# Altium footprint library Footprints.PcbLib: 67 footprints (part 3 of 5)
Each footprint in its own frame and in the unit in brackets; x right, y up, seen from the top. Pads: shape width x height; smd on the part's side, far side on the other; paste and mask are expansions set on the pad; w line width, h text height; cw(c..) or ccw(c..) is an arc to the next point about the centre after c.
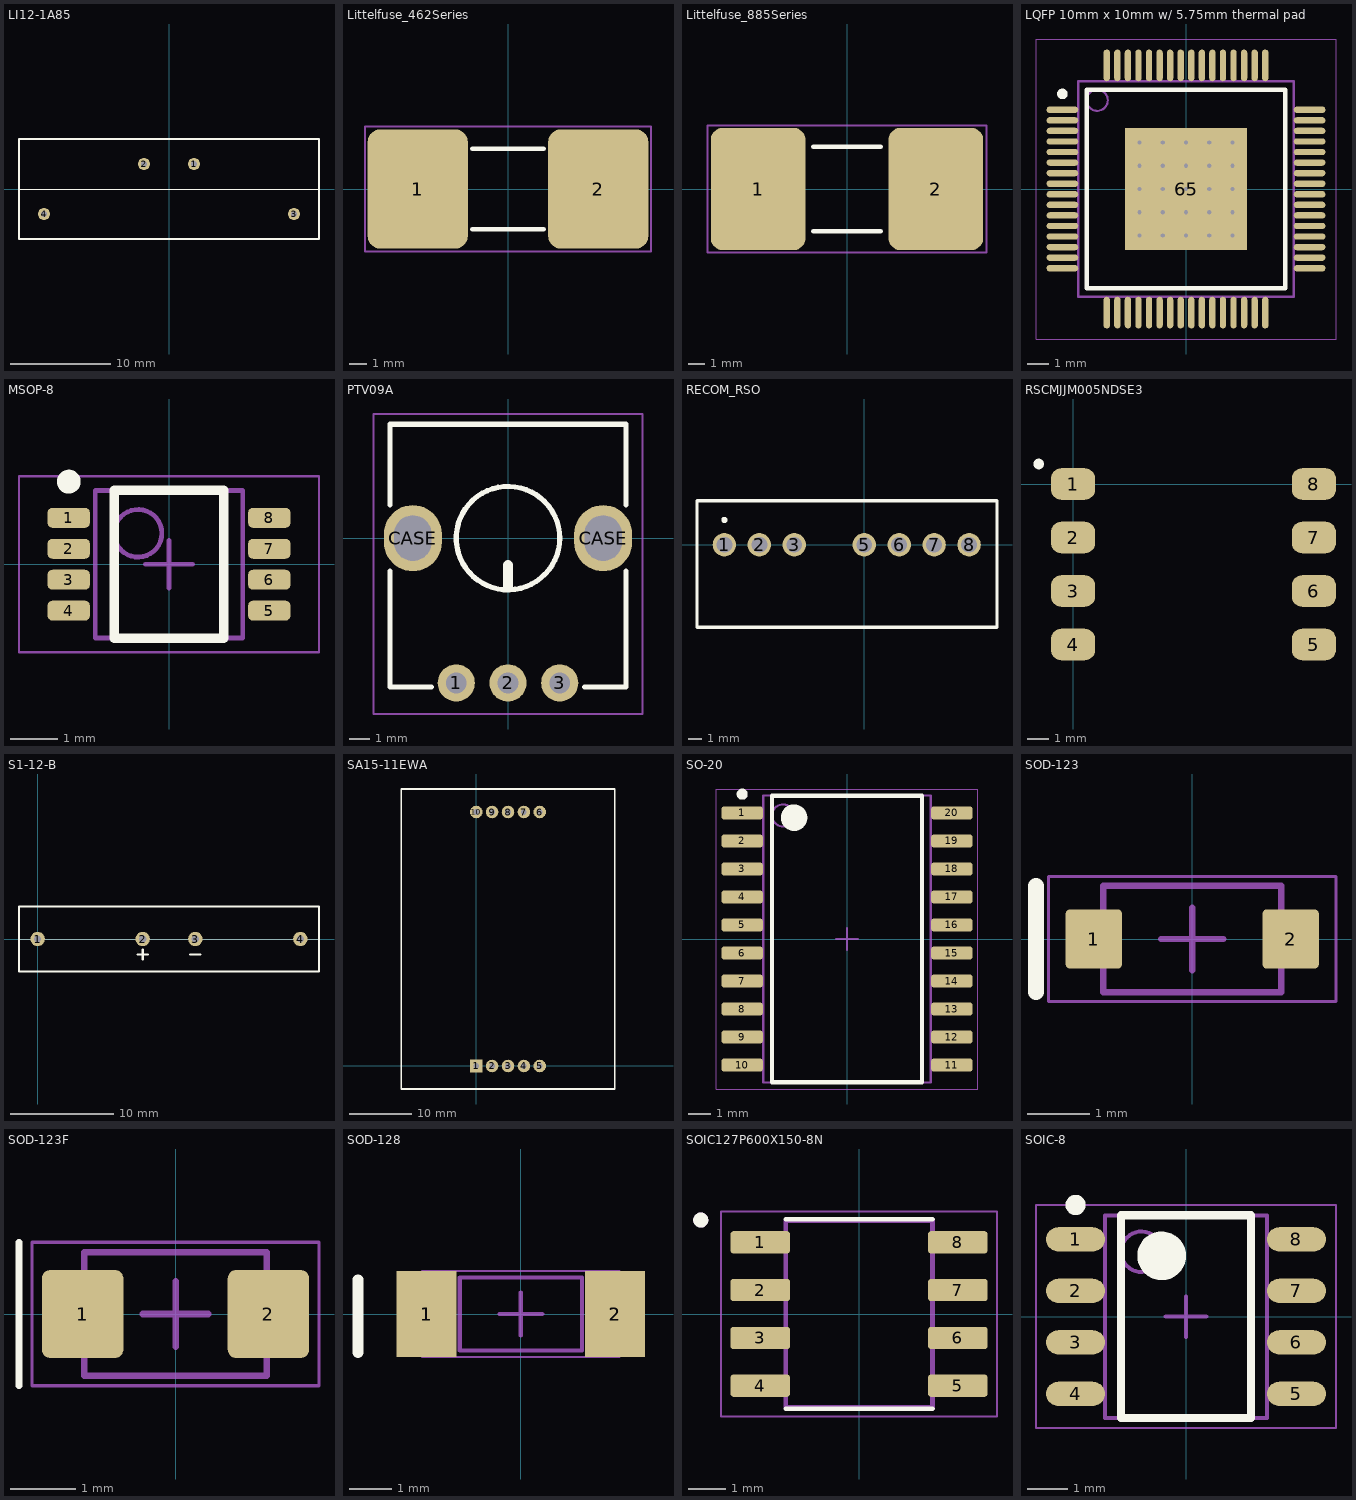
[diagram p2: the footprints below, top view; thin cyan lines are the x and y axes]

## LI12-1A85 [mm]
pads (4):
  round 1.2 hole 0.6: 1(2.5,2.5) 2(-2.5,2.5) 3(12.5,-2.5) 4(-12.5,-2.5)
Top Overlay:
  lines w0.1: -15,0 15,0
  lines w0.2: -15,-5 -15,5 15,5 15,-5 -15,-5
3D body: height 10, standoff 0.4, extent -15,-5 15,5
3D body: height 0, standoff 0, extent -12.5,-2.5 -12.5,-2.5
3D body: height 0, standoff 0, extent -2.5,2.5 -2.5,2.5
3D body: height 0, standoff 0, extent 2.5,2.5 2.5,2.5
3D body: height 0, standoff 0, extent 12.5,-2.5 12.5,-2.5

## Littelfuse_462Series [mm]
pads (2):
  rrect25% 5.6x6.68 smd: 1(-5.05,0) 2(5.05,0)
Top Overlay:
  lines w0.254: -2,-2.25 2,-2.25 ; -2,2.25 2,2.25
Mechanical 15:
  lines w0.1: -8,-3.5 -8,3.5 8,3.5 8,-3.5 -8,-3.5
3D body "series462.STEP": height 4.5, standoff 0, extent -5.25,-2.25 5.25,2.25

## Littelfuse_885Series [mm]
pads (2):
  rrect25% 5.6x7.23 smd: 1(-5.25,0) 2(5.25,0)
Top Overlay:
  lines w0.254: -2,-2.5 2,-2.5 ; -2,2.5 2,2.5
Mechanical 15:
  lines w0.1: -8.25,-3.75 -8.25,3.75 8.25,3.75 8.25,-3.75 -8.25,-3.75
3D body "series885.STEP": height 4.78, standoff 0, extent -5.43,-2.39 5.43,2.39

## LQFP 10mm x 10mm w/ 5.75mm thermal pad [mm]
height 1.6
pads (65):
  oval 1.5x0.3 smd paste-0.06: 1(-5.85,3.75) 2(-5.85,3.25) 3(-5.85,2.75) 4(-5.85,2.25) 5(-5.85,1.75) 6(-5.85,1.25) 7(-5.85,0.75) 8(-5.85,0.25) 9(-5.85,-0.25) 10(-5.85,-0.75) 11(-5.85,-1.25) 12(-5.85,-1.75) 13(-5.85,-2.25) 14(-5.85,-2.75) 15(-5.85,-3.25) 16(-5.85,-3.75) 33(5.85,-3.75) 34(5.85,-3.25) 35(5.85,-2.75) 36(5.85,-2.25) 37(5.85,-1.75) 38(5.85,-1.25) 39(5.85,-0.75) 40(5.85,-0.25) 41(5.85,0.25) 42(5.85,0.75) 43(5.85,1.25) 44(5.85,1.75) 45(5.85,2.25) 46(5.85,2.75) 47(5.85,3.25) 48(5.85,3.75)
  oval 0.3x1.5 smd paste-0.06: 17(-3.75,-5.85) 18(-3.25,-5.85) 19(-2.75,-5.85) 20(-2.25,-5.85) 21(-1.75,-5.85) 22(-1.25,-5.85) 23(-0.75,-5.85) 24(-0.25,-5.85) 25(0.25,-5.85) 26(0.75,-5.85) 27(1.25,-5.85) 28(1.75,-5.85) 29(2.25,-5.85) 30(2.75,-5.85) 31(3.25,-5.85) 32(3.75,-5.85) 49(3.75,5.85) 50(3.25,5.85) 51(2.75,5.85) 52(2.25,5.85) 53(1.75,5.85) 54(1.25,5.85) 55(0.75,5.85) 56(0.25,5.85) 57(-0.25,5.85) 58(-0.75,5.85) 59(-1.25,5.85) 60(-1.75,5.85) 61(-2.25,5.85) 62(-2.75,5.85) 63(-3.25,5.85) 64(-3.75,5.85)
  rect 5.79x5.79 smd: 65(0,0)
via -2.2,2.2 diameter 0.5 hole 0.2
via -1.1,2.2 diameter 0.5 hole 0.2
via 0,2.2 diameter 0.5 hole 0.2
via 1.1,2.2 diameter 0.5 hole 0.2
via 2.2,2.2 diameter 0.5 hole 0.2
via -2.2,1.1 diameter 0.5 hole 0.2
via -1.1,1.1 diameter 0.5 hole 0.2
via 0,1.1 diameter 0.5 hole 0.2
via 1.1,1.1 diameter 0.5 hole 0.2
via 2.2,1.1 diameter 0.5 hole 0.2
via -2.2,0 diameter 0.5 hole 0.2
via -1.1,0 diameter 0.5 hole 0.2
via 0,0 diameter 0.5 hole 0.2
via 1.1,0 diameter 0.5 hole 0.2
via 2.2,0 diameter 0.5 hole 0.2
via -2.2,-1.1 diameter 0.5 hole 0.2
via -1.1,-1.1 diameter 0.5 hole 0.2
via 0,-1.1 diameter 0.5 hole 0.2
via 1.1,-1.1 diameter 0.5 hole 0.2
via 2.2,-1.1 diameter 0.5 hole 0.2
via -2.2,-2.2 diameter 0.5 hole 0.2
via -1.1,-2.2 diameter 0.5 hole 0.2
via 0,-2.2 diameter 0.5 hole 0.2
via 1.1,-2.2 diameter 0.5 hole 0.2
via 2.2,-2.2 diameter 0.5 hole 0.2
Top Overlay:
  circle w0.25: c-5.85,4.5 r0.125
  lines w0.2: -4.7,-4.7 -4.7,4.7 4.7,4.7 4.7,-4.7 -4.7,-4.7
Mechanical 13:
  circle w0.1: c-4.2,4.2 r0.5
  lines w0.1: -5.1,-5.1 -5.1,5.1 5.1,5.1 5.1,-5.1 -5.1,-5.1
Mechanical 15:
  lines w0.05: -7.1,-7.1 -7.1,7.1 7.1,7.1 7.1,-7.1 -7.1,-7.1
  lines w0.1: -0.5,0 0.5,0 ; 0,-0.5 0,0.5
3D body "QFP127P600-8N.step": height 1.6, standoff 0, extent -6,-6 6,6

## MSOP-8 [mm] "MSOP, 8-Leads, Body 3.00x3.00mmPitch 0.65mm, IPC MSOP65P490X110-8N, Medium Density, LTC2053, AD8495, LT6100HMS8PBF"
height 1.1
pads (8):
  rrect50% 0.889x0.42 smd: 1(-2.105,0.975) 2(-2.105,0.325) 3(-2.105,-0.325) 4(-2.105,-0.975) 5(2.105,-0.975) 6(2.105,-0.325) 7(2.105,0.325) 8(2.105,0.975)
Top Overlay:
  circle w0.25: c-2.105,1.735 r0.125
  lines w0.2: -1.15,-1.55 1.15,-1.55 1.15,1.55 -1.15,1.55 -1.15,-1.55
Mechanical 13:
  circle w0.1: c-0.65,0.65 r0.5
  lines w0.1: -1.55,-1.55 1.55,-1.55 1.55,1.55 -1.55,1.55 -1.55,-1.55
Mechanical 15:
  lines w0.05: -3.15,-1.85 3.15,-1.85 3.15,1.85 -3.15,1.85 -3.15,-1.85
  lines w0.1: -0.5,0 0.5,0 ; 0,-0.5 0,0.5
3D body: height 1.1, standoff 0.05, extent -1.55,-1.55 1.55,1.55

## PTV09A [mm] "HORIZONTAL/REAR MOUNT ROTARY POT"
pads (5):
  round 1.8 hole 1: 1(-2.5,-7) 2(0,-7) 3(2.5,-7)
  oval 2.8x3.2 hole 1.8 slot 2.2 at 90 deg: CASE(-4.6,0) CASE(4.6,0)
Top Overlay:
  circle w0.254: c0,0 r2.5
  lines w0.254: -5.7,-1.6 -5.7,-7.2 -3.7,-7.2 ; -5.7,1.6 -5.7,5.5 5.7,5.5 5.7,1.6 ; 3.7,-7.2 5.7,-7.2 5.7,-1.6
  lines w0.5: 0,-2.3 0,-1.3
Mechanical 15:
  lines w0.1: -6.5,-8.5 -6.5,6 6.5,6 6.5,0 6.5,-8.5 -6.5,-8.5
3D body "ptv09a-4x20u-xxxx.stp": height 20, standoff -3.99, extent -5.7,-7.15 5.7,5.5

## RECOM_RSO [mm]
pads (7):
  round 1.7 hole 1.15: 1(-10.16,0) 2(-7.62,0) 3(-5.08,0) 5(0,0) 6(2.54,0) 7(5.08,0) 8(7.62,0)
Top Overlay:
  circle w0.254: c-10.16,1.8 r0.1
  lines w0.254: -12.15,-6 -12.15,-6 ; -12.15,-6 9.65,-6 9.65,3.2 -12.15,3.2 -12.15,-6
Mechanical 15:
  lines w0.1: -12.15,-6 -12.15,3.2 9.65,3.2 9.65,-6 -12.15,-6
3D body "RECOM_RSO.STEP": height 11.1, standoff -4.1, extent -12.15,-6 9.65,3.2

## RSCMJJM005NDSE3 [mm]
pads (8):
  rrect65% 2.1x1.5 smd: 1(0,0) 2(0,-2.54) 3(0,-5.08) 4(0,-7.62) 5(11.432,-7.62) 6(11.432,-5.08) 7(11.432,-2.54) 8(11.432,0)
Top Overlay:
  circle w0.25: c-1.635,0.95 r0.125
3D body "PressureSensorModel.STEP": height 8.43, standoff -0.01, extent -0.911,-8.755 12.31,7.65

## S1-12-B [mm]
pads (4):
  round 1.4 hole 0.7: 1(0,0) 2(10.16,0) 3(15.24,0) 4(25.4,0)
Top Overlay:
  lines w0.1: -1.8,0 27.2,0
  lines w0.2: 9.66,-1.5 10.66,-1.5 ; 10.16,-2 10.16,-1 ; 14.74,-1.5 15.74,-1.5 ; -1.8,-3.15 27.2,-3.15 27.2,3.15 -1.8,3.15 -1.8,-3.15
3D body: height 0, standoff 0, extent 25.4,0 25.4,0
3D body: height 0, standoff 0, extent 15.24,0 15.24,0
3D body: height 0, standoff 0, extent 10.16,0 10.16,0
3D body: height 0, standoff 0, extent 0,0 0,0
3D body: height 12.9, standoff 0.4, extent -1.8,-3.2 27.2,3.2

## SA15-11EWA [mm]
pads (10):
  rect 2x2 hole 0.9: 1(0,0)
  round 2 hole 0.9: 2(2.54,0) 3(5.08,0) 4(7.62,0) 5(10.16,0) 6(10.16,40.64) 7(7.62,40.64) 8(5.08,40.64) 9(2.54,40.64) 10(0,40.64)
Top Overlay:
  lines w0.254: -11.995,-3.68 22.155,-3.68 22.155,44.32 -11.995,44.32 -11.995,-3.68
3D body "SA15-11.STEP": height 12.5, standoff -4, extent -11.5,-3.18 21.65,43.82

## SO-20 [mm] "LT1161ISWPBF"
height 2.65
pads (20):
  rrect50% 1.9x0.6 smd: 1(-4.75,5.715) 2(-4.75,4.445) 3(-4.75,3.175) 4(-4.75,1.905) 5(-4.75,0.635) 6(-4.75,-0.635) 7(-4.75,-1.905) 8(-4.75,-3.175) 9(-4.75,-4.445) 10(-4.75,-5.715) 11(4.75,-5.715) 12(4.75,-4.445) 13(4.75,-3.175) 14(4.75,-1.905) 15(4.75,-0.635) 16(4.75,0.635) 17(4.75,1.905) 18(4.75,3.175) 19(4.75,4.445) 20(4.75,5.715)
Top Overlay:
  circle w0.25: c-4.75,6.565 r0.125
  circle w0.6: c-2.4,5.5 r0.3
  lines w0.2: -3.4,-6.5 -3.4,6.5 3.4,6.5 3.4,-6.5 -3.4,-6.5
Mechanical 13:
  circle w0.1: c-2.9,5.6 r0.5
  lines w0.1: -3.8,-6.5 -3.8,6.5 3.8,6.5 3.8,-6.5 -3.8,-6.5
Mechanical 15:
  lines w0.05: -5.925,-6.8 -5.925,6.8 5.925,6.8 5.925,-6.8 -5.925,-6.8
  lines w0.1: -0.5,0 0.5,0 ; 0,-0.5 0,0.5
3D body: height 2.65, standoff 0.1, extent -3.8,-6.5 3.8,6.5

## SOD-123 [mm] "SODFL, 2-Leads, Body 1.55x3.70mm, IPC Medium Density"
height 1.35
pads (2):
  rrect15% 0.9x0.95 smd: 1(-1.575,0) 2(1.575,0)
Top Overlay:
  lines w0.254: -2.5,-0.85 -2.5,0.85
Mechanical 13:
  lines w0.1: -1.425,-0.85 1.425,-0.85 1.425,0.85 -1.425,0.85 -1.425,-0.85
Mechanical 15:
  lines w0.05: -2.3,-1 2.3,-1 2.3,1 -2.3,1 -2.3,-1
  lines w0.1: -0.5,0 0.5,0 ; 0,-0.5 0,0.5
3D body "SODFL370X135-2N.step": height 1.35, standoff 0, extent -1.85,-0.85 1.85,0.85

## SOD-123F [mm] "SODFL, 2-Leads, Body 1.80x3.50mm, IPC Medium Density"
height 1.15
pads (2):
  rrect20% 1.25x1.35 smd: 1(-1.425,0) 2(1.425,0)
Top Overlay:
  lines w0.1: -2.4,-1.1 -2.4,1.1
Mechanical 13:
  lines w0.1: -1.4,-0.95 1.4,-0.95 1.4,0.95 -1.4,0.95 -1.4,-0.95
Mechanical 15:
  lines w0.05: -2.2,-1.1 2.2,-1.1 2.2,1.1 -2.2,1.1 -2.2,-1.1
  lines w0.1: -0.5,0 0.5,0 ; 0,-0.5 0,0.5
3D body "SOD-123F .step": height 1.15, standoff 0, extent -1.75,-0.95 1.75,0.95

## SOD-128 [mm]
pads (4):
  rect 1.4x2 smd: 1(-2.2,0) 1(-2.2,0) 2(2.2,0) 2(2.2,0)
Top Overlay:
  lines w0.254: -3.8,-0.9 -3.8,0.8 -3.8,-0.9
Mechanical 13:
  lines w0.1: -1.425,-0.85 -1.425,0.85 ; -1.425,-0.85 1.425,-0.85 ; -1.425,-0.85 1.425,-0.85 ; -1.425,-0.85 -1.425,0.85 ; -1.425,0.85 1.425,0.85 ; -1.425,0.85 1.425,0.85 ; 1.425,-0.85 1.425,0.85 ; 1.425,-0.85 1.425,0.85
Mechanical 15:
  lines w0.05: -2.3,-1 2.3,-1 ; -2.3,-1 -2.3,1 ; -2.3,-1 2.3,-1 ; -2.3,-1 -2.3,1 ; -2.3,1 2.3,1 ; -2.3,1 2.3,1 ; 2.3,-1 2.3,1 ; 2.3,-1 2.3,1
  lines w0.1: -0.5,0 0.5,0 -0.5,0 ; 0,-0.5 0,0.5 0,-0.5
3D body "SODFL4725X110_NXP_SOD128.STEP": height 1.1, standoff 0, extent -2.35,-1.25 2.35,1.25

## SOIC127P600X150-8N [mm]
pads (8):
  rrect25% 1.58x0.59 smd: 1(-2.625,1.905) 2(-2.625,0.635) 3(-2.625,-0.635) 4(-2.625,-1.905) 5(2.625,-1.905) 6(2.625,-0.635) 7(2.625,0.635) 8(2.625,1.905)
Top Overlay:
  circle w0.2: c-4.205,2.495 r0.1
  lines w0.127: -1.95,-2.52 1.95,-2.52 ; -1.95,2.52 1.95,2.52
Mechanical 13:
  circle w0.2: c-4.205,2.495 r0.1
  lines w0.127: -1.95,-2.475 -1.95,2.475 1.95,2.475 1.95,-2.475 -1.95,-2.475
Mechanical 15:
  lines w0.05: -3.665,-2.725 -3.665,2.725 3.665,2.725 3.665,-2.725 -3.665,-2.725

## SOIC-8 [mm] "SOIC, 8-Leads, Body 4.90x3.90mm, Pitch 1.27mm, IPC Medium Density"
height 1.75
pads (8):
  oval 1.45x0.6 smd: 1(-2.725,1.905) 2(-2.725,0.635) 3(-2.725,-0.635) 4(-2.725,-1.905) 5(2.725,-1.905) 6(2.725,-0.635) 7(2.725,0.635) 8(2.725,1.905)
Top Overlay:
  circle w0.6: c-0.6,1.5 r0.3
  circle w0.25: c-2.725,2.755 r0.125
  lines w0.2: -1.6,-2.5 1.6,-2.5 1.6,2.5 -1.6,2.5 -1.6,-2.5
Mechanical 13:
  circle w0.1: c-1.1,1.6 r0.5
  lines w0.1: -2,-2.5 2,-2.5 2,2.5 -2,2.5 -2,-2.5
Mechanical 15:
  lines w0.05: -3.7,-2.75 3.7,-2.75 3.7,2.75 -3.7,2.75 -3.7,-2.75
  lines w0.1: -0.5,0 0.5,0 ; 0,-0.5 0,0.5
3D body "SOIC127P600X175-8N.step": height 1.75, standoff 0, extent -3,-2.5 3,2.5